# EAGLE library part AZ850P2–24 (library zettler_A850)
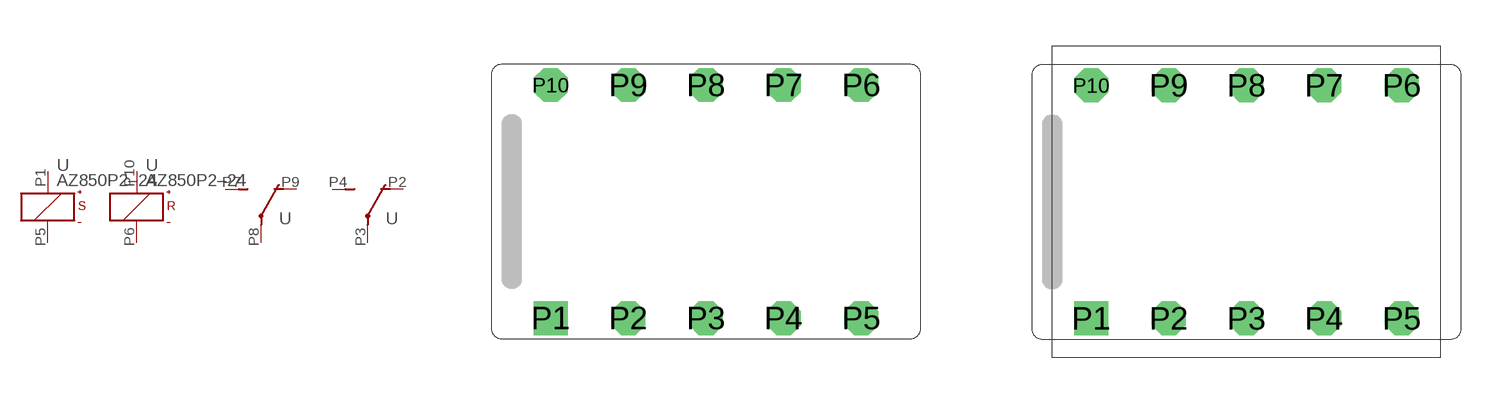
[diagram p6: symbol with the pads of AZ850; footprints AZ850, AZ850_W_SOCKET]

Designator prefix -; gates RESET=K+-R SET=K+-S G$1=U G$2=U

## AZ850P2–24  [AZ850]
P1  SET:+  pas
P2  G$2:O  pas
P3  G$2:P  pas
P4  G$2:S  pas
P5  SET:-  pas
P6  RESET:-  pas
P7  G$1:S  pas
P8  G$1:P  pas
P9  G$1:O  pas
P10  RESET:+  pas

## AZ850P2–24SOCKETED  [AZ850_W_SOCKET]
Pads as for AZ850

## Footprint AZ850 (pad centres in mm)
drill 0.6 square: P1 -5.08,-3.81
drill 0.6 octagon: P2 -2.54,-3.81; P3 0,-3.81; P4 2.54,-3.81; P5 5.08,-3.81; P6 5.08,3.81; P7 2.54,3.81; P8 0,3.81; P9 -2.54,3.81; P10 -5.08,3.81

## Footprint AZ850_W_SOCKET (pad centres in mm)
AZ850 series relay in a DIP10 socket like AR 10 HZL-TT
drill 0.6 square: P1 -5.08,-3.81
drill 0.6 octagon: P2 -2.54,-3.81; P3 0,-3.81; P4 2.54,-3.81; P5 5.08,-3.81; P6 5.08,3.81; P7 2.54,3.81; P8 0,3.81; P9 -2.54,3.81; P10 -5.08,3.81